# EAGLE library part NANO54415 (library ARVP_07-15-13)
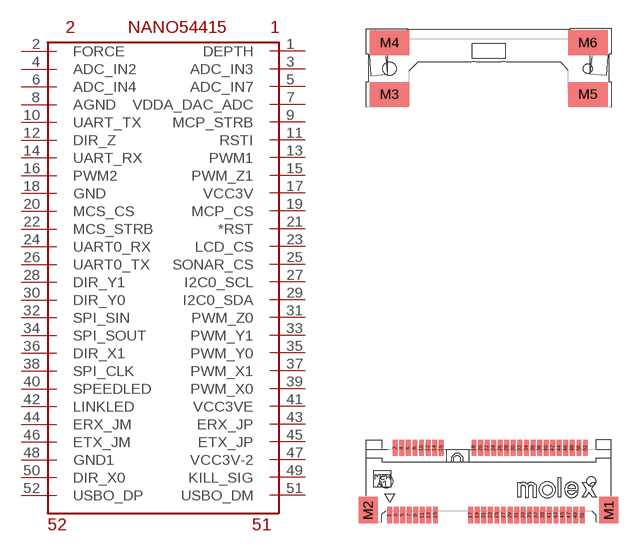
[diagram p15: symbol with the pads of MINIPCI_EXPRESS; footprint MINIPCI_EXPRESS]

Designator prefix -

## NANO54415  [MINIPCI_EXPRESS]
1  DEPTH
2  FORCE
3  ADC_IN3
4  ADC_IN2
5  ADC_IN7
6  ADC_IN4
7  VDDA_DAC_ADC
8  AGND  pwr
9  MCP_STRB
10  UART_TX
11  RSTI
12  DIR_Z
13  PWM1
14  UART_RX
15  PWM_Z1
16  PWM2
17  VCC3V  pwr
18  GND  pwr
19  MCP_CS
20  MCS_CS
21  *RST
22  MCS_STRB
23  LCD_CS
24  UART0_RX
25  SONAR_CS
26  UART0_TX
27  I2C0_SCL
28  DIR_Y1
29  I2C0_SDA
30  DIR_Y0
31  PWM_Z0
32  SPI_SIN
33  PWM_Y1
34  SPI_SOUT
35  PWM_Y0
36  DIR_X1
37  PWM_X1
38  SPI_CLK
39  PWM_X0
40  SPEEDLED
41  VCC3VE  pwr
42  LINKLED
43  ERX_JP
44  ERX_JM
45  ETX_JP
46  ETX_JM
47  VCC3V-2  pwr
48  GND1  pwr
49  KILL_SIG
50  DIR_X0
51  USBO_DM
52  USBO_DP

## Footprint MINIPCI_EXPRESS (pad centres in mm)
smd 0.6 x 2: 1 -12.3,-32.04; 2 -11.6,-23.84; 3 -11.5,-32.04; 4 -10.8,-23.84; 5 -10.7,-32.04; 6 -10,-23.84; 7 -9.9,-32.04; 8 -9.2,-23.84; 9 -9.1,-32.04; 10 -8.4,-23.84; 11 -8.3,-32.04; 12 -7.6,-23.84; 13 -7.5,-32.04; 14 -6.8,-23.84; 15 -6.7,-32.04; 16 -6,-23.84; 17 -2.4,-32.04; 18 -2,-23.84; 19 -1.6,-32.04; 20 -1.2,-23.84; 21 -0.8,-32.04; 22 -0.4,-23.84; 23 0,-32.04; 24 0.4,-23.84; 25 0.8,-32.04; 26 1.2,-23.84; 27 1.6,-32.04; 28 2,-23.84; 29 2.4,-32.04; 30 2.8,-23.84; 31 3.2,-32.04; 32 3.6,-23.84; 33 4,-32.04; 34 4.4,-23.84; 35 4.8,-32.04; 36 5.2,-23.84; 37 5.6,-32.04; 38 6,-23.84; 39 6.4,-32.04; 40 6.8,-23.84; 41 7.2,-32.04; 42 7.6,-23.84; 43 8,-32.04; 44 8.4,-23.84; 45 8.8,-32.04; 46 9.2,-23.84; 47 9.6,-32.04; 48 10,-23.84; 49 10.4,-32.04; 50 10.8,-23.84; 51 11.2,-32.04; 52 11.6,-23.84
smd 2.3 x 3.2: M1 14.45,-31.44; M2 -14.9,-31.44
smd 4.8 x 3: M3 -12.3,19.31; M4 -12.3,25.61; M5 11.9,19.31; M6 11.9,25.61
hole 1.6 at -12.7,-27.94
hole 1.1 at 12.3,-27.94
hole 1.6 at -12.3,22.46
hole 1.1 at 11.9,22.46